# Altium schematic symbol library 电源接头.SchLib: 4 symbols
Pins are listed as number, name and electrical type; pins without a type are passive.

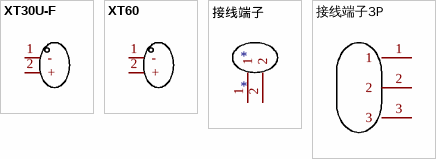
[diagram p0: symbols XT30U-F to 接线端子3P]

## XT30U-F
designator U??  (value not drawn)
Manufacturer: AMASS(艾迈斯); Add into BOM: yes; Brand: 艾迈斯; InterfaceType: 母头; Symbol: XT30U-F; Device: XT30U-F; LCSC Part Name: AMASS(艾迈斯)轻量版锂电池插头母头 XT30U-F; Supplier Part: C99102; Manufacturer Part: XT30U-F; Supplier Footprint: -; JLCPCB Part Class: Extended Part; Datasheet: https://atta.szlcsc.com/upload/public/pdf/source/20190916/C428721_B0ECB8C5937139CEFE8736D2D3175B0E.pdf; Supplier: LCSC; Convert to PCB: yes; Model: XT30U-F; Power: -; Output: -; Input: -; Size: -; Interface: -; Type: 插头; Colour: 黄色; MaximumCurrent: -; RatedVoltage: -; Type1: -; NumberOfUSBHoles: -; MetalMaterial: -; InsulationMaterial: -; RatedCurrent: -; RecommendedWireGauge: -; FlameRetardantGrade: -; contact resistance: -; Belt length: -; specifications: -
footprint CONN-TH_XT30U-F
footprint CONN-TH_XT30U-M
pins: 1 -, 2 +

## XT60
designator U??  (value not drawn)
Manufacturer: AMASS(艾迈斯); Add into BOM: yes; Name: XT60; Symbol: XT60; Device: XT60; LCSC Part Name: AMASS(艾迈斯) XT60模型插头 3.5mm镀金香蕉头公头（电调端）XT60-M; Supplier Part: C98733; Manufacturer Part: XT60; Supplier Footprint: -; JLCPCB Part Class: Extended Part; Datasheet: https://atta.szlcsc.com/upload/public/pdf/source/20170606/1496716524919.pdf; Supplier: LCSC; Convert to PCB: yes
footprint CONN-TH_XT60
3D model CONN-TH_XT60
footprint CONN-TH_XT60PB-F
footprint CONN-TH_AM-1015B-F
footprint CONN-TH_AM-1015B-M
pins: 1 -, 2 +

## 接线端子
designator *
footprint CONN-TH_2P-P5.00_WJ301V-5.00-2P
pins: 1, 2

## 接线端子3P
designator ?, comment WJ301V-5.0-3P  (value not drawn)
Designer: U?; Symbol: WJ301V-5.0-3P; Device: WJ301V-5.0-3P
footprint CONN-TH_2P-P5.00_WJ301V-5.00-3P
pins: 1, 2, 3